# EAGLE library part XS1-G04B-FB114 (library Eagle_XMOS_Lib_COMPLETE)
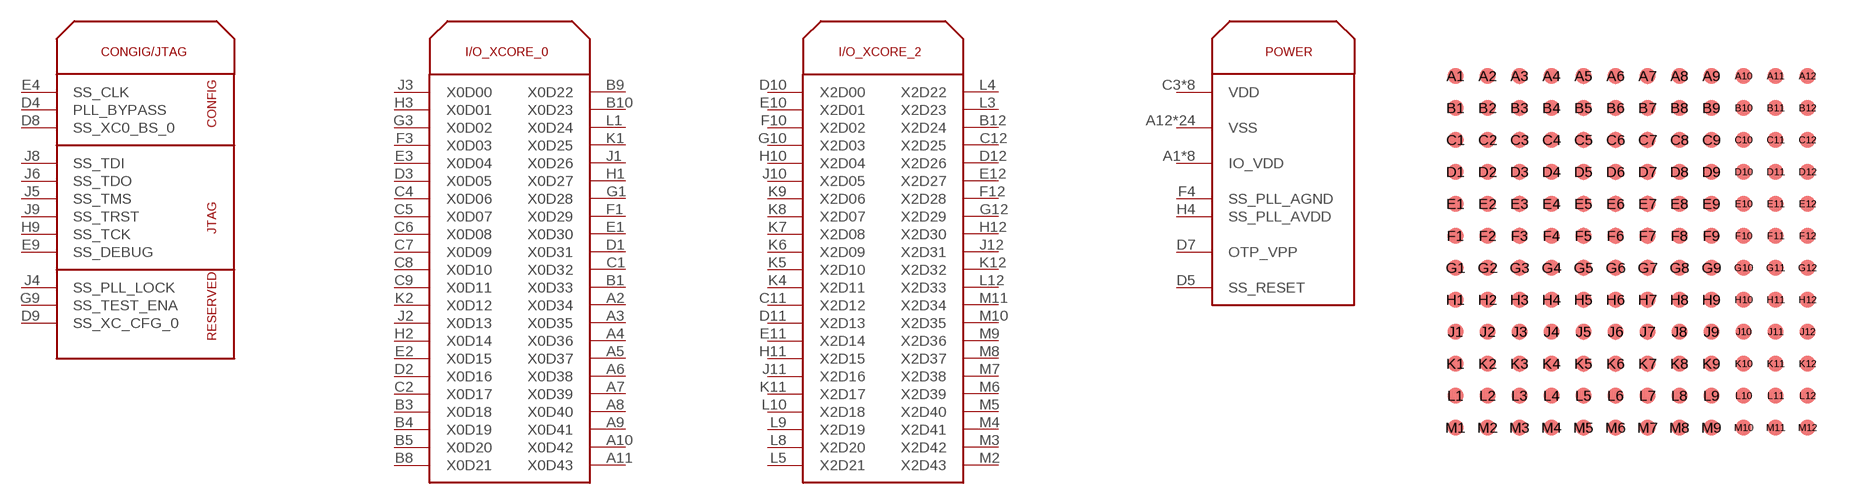
[diagram p5: symbol with the pads of FBGA144; footprint FBGA144]

Designator prefix -; gates G$1=XS1-G04B-FB144_CONFIG/JTAG G$2=XS1-G04B-FB144_I/O_XCORE_0 G$3=XS1-G04B-FB144_I/O_XCORE_2 G$4=XS1-G04B-FB144_POWER

## XS1-G04B-FB114  [FBGA144]
A1  G$4:IO_VDD
A2  G$2:X0D34
A3  G$2:X0D35
A4  G$2:X0D36
A5  G$2:X0D37
A6  G$2:X0D38
A7  G$2:X0D39
A8  G$2:X0D40
A9  G$2:X0D41
A10  G$2:X0D42
A11  G$2:X0D43
A12  G$4:VSS
B1  G$2:X0D33
B2  G$4:VSS
B3  G$2:X0D18
B4  G$2:X0D19
B5  G$2:X0D20
B6  G$4:IO_VDD
B7  G$4:VSS
B8  G$2:X0D21
B9  G$2:X0D22
B10  G$2:X0D23
B11  G$4:IO_VDD
B12  G$3:X2D24
C1  G$2:X0D32
C2  G$2:X0D17
C3  G$4:VDD
C4  G$2:X0D06
C5  G$2:X0D07
C6  G$2:X0D08
C7  G$2:X0D09
C8  G$2:X0D10
C9  G$2:X0D11
C10  G$4:VDD
C11  G$3:X2D12
C12  G$3:X2D25
D1  G$2:X0D31
D2  G$2:X0D16
D3  G$2:X0D05
D4  G$1:PLL_BYPASS
D5  G$4:SS_RESET
D6  G$4:VDD
D7  G$4:OTP_VPP
D8  G$1:SS_XC0_BS_0
D9  G$1:SS_XC_CFG_0
D10  G$3:X2D00
D11  G$3:X2D13
D12  G$3:X2D26
E1  G$2:X0D30
E2  G$2:X0D15
E3  G$2:X0D04
E4  G$1:SS_CLK
E5  G$4:VSS
E6  G$4:VSS
E7  G$4:VSS
E8  G$4:VSS
E9  G$1:SS_DEBUG
E10  G$3:X2D01
E11  G$3:X2D14
E12  G$3:X2D27
F1  G$2:X0D29
F2  G$4:IO_VDD
F3  G$2:X0D03
F4  G$4:SS_PLL_AGND
F5  G$4:VSS
F6  G$4:VSS
F7  G$4:VSS
F8  G$4:VSS
F9  G$4:VDD
F10  G$3:X2D02
F11  G$4:VSS
F12  G$3:X2D28
G1  G$2:X0D28
G2  G$4:VSS
G3  G$2:X0D02
G4  G$4:VDD
G5  G$4:VSS
G6  G$4:VSS
G7  G$4:VSS
G8  G$4:VSS
G9  G$1:SS_TEST_ENA
G10  G$3:X2D03
G11  G$4:IO_VDD
G12  G$3:X2D29
H1  G$2:X0D27
H2  G$2:X0D14
H3  G$2:X0D01
H4  G$4:SS_PLL_AVDD
H5  G$4:VSS
H6  G$4:VSS
H7  G$4:VSS
H8  G$4:VSS
H9  G$1:SS_TCK
H10  G$3:X2D04
H11  G$3:X2D15
H12  G$3:X2D30
J1  G$2:X0D26
J2  G$2:X0D13
J3  G$2:X0D00
J4  G$1:SS_PLL_LOCK
J5  G$1:SS_TMS
J6  G$1:SS_TDO
J7  G$4:VDD
J8  G$1:SS_TDI
J9  G$1:SS_TRST
J10  G$3:X2D05
J11  G$3:X2D16
J12  G$3:X2D31
K1  G$2:X0D25
K2  G$2:X0D12
K3  G$4:VDD
K4  G$3:X2D11
K5  G$3:X2D10
K6  G$3:X2D09
K7  G$3:X2D08
K8  G$3:X2D07
K9  G$3:X2D06
K10  G$4:VDD
K11  G$3:X2D17
K12  G$3:X2D32
L1  G$2:X0D24
L2  G$4:IO_VDD
L3  G$3:X2D23
L4  G$3:X2D22
L5  G$3:X2D21
L6  G$4:VSS
L7  G$4:IO_VDD
L8  G$3:X2D20
L9  G$3:X2D19
L10  G$3:X2D18
L11  G$4:VSS
L12  G$3:X2D33
M1  G$4:VSS
M2  G$3:X2D43
M3  G$3:X2D42
M4  G$3:X2D41
M5  G$3:X2D40
M6  G$3:X2D39
M7  G$3:X2D38
M8  G$3:X2D37
M9  G$3:X2D36
M10  G$3:X2D35
M11  G$3:X2D34
M12  G$4:IO_VDD

## Footprint FBGA144 (pad centres in mm)
smd 0.4 x 0.4: A1 1.3,-1.3; A2 2.1,-1.3; A3 2.9,-1.3; A4 3.7,-1.3; A5 4.5,-1.3; A6 5.3,-1.3; A7 6.1,-1.3; A8 6.9,-1.3; A9 7.7,-1.3; A10 8.5,-1.3; A11 9.3,-1.3; A12 10.1,-1.3; B1 1.3,-2.1; B2 2.1,-2.1; B3 2.9,-2.1; B4 3.7,-2.1; B5 4.5,-2.1; B6 5.3,-2.1; B7 6.1,-2.1; B8 6.9,-2.1; B9 7.7,-2.1; B10 8.5,-2.1; B11 9.3,-2.1; B12 10.1,-2.1; C1 1.3,-2.9; C2 2.1,-2.9; C3 2.9,-2.9; C4 3.7,-2.9; C5 4.5,-2.9; C6 5.3,-2.9; C7 6.1,-2.9; C8 6.9,-2.9; C9 7.7,-2.9; C10 8.5,-2.9; C11 9.3,-2.9; C12 10.1,-2.9; D1 1.3,-3.7; D2 2.1,-3.7; D3 2.9,-3.7; D4 3.7,-3.7; D5 4.5,-3.7; D6 5.3,-3.7; D7 6.1,-3.7; D8 6.9,-3.7; D9 7.7,-3.7; D10 8.5,-3.7; D11 9.3,-3.7; D12 10.1,-3.7; E1 1.3,-4.5; E2 2.1,-4.5; E3 2.9,-4.5; E4 3.7,-4.5; E5 4.5,-4.5; E6 5.3,-4.5; E7 6.1,-4.5; E8 6.9,-4.5; E9 7.7,-4.5; E10 8.5,-4.5; E11 9.3,-4.5; E12 10.1,-4.5; F1 1.3,-5.3; F2 2.1,-5.3; F3 2.9,-5.3; F4 3.7,-5.3; F5 4.5,-5.3; F6 5.3,-5.3; F7 6.1,-5.3; F8 6.9,-5.3; F9 7.7,-5.3; F10 8.5,-5.3; F11 9.3,-5.3; F12 10.1,-5.3; G1 1.3,-6.1; G2 2.1,-6.1; G3 2.9,-6.1; G4 3.7,-6.1; G5 4.5,-6.1; G6 5.3,-6.1; G7 6.1,-6.1; G8 6.9,-6.1; G9 7.7,-6.1; G10 8.5,-6.1; G11 9.3,-6.1; G12 10.1,-6.1; H1 1.3,-6.9; H2 2.1,-6.9; H3 2.9,-6.9; H4 3.7,-6.9; H5 4.5,-6.9; H6 5.3,-6.9; H7 6.1,-6.9; H8 6.9,-6.9; H9 7.7,-6.9; H10 8.5,-6.9; H11 9.3,-6.9; H12 10.1,-6.9; J1 1.3,-7.7; J2 2.1,-7.7; J3 2.9,-7.7; J4 3.7,-7.7; J5 4.5,-7.7; J6 5.3,-7.7; J7 6.1,-7.7; J8 6.9,-7.7; J9 7.7,-7.7; J10 8.5,-7.7; J11 9.3,-7.7; J12 10.1,-7.7; K1 1.3,-8.5; K2 2.1,-8.5; K3 2.9,-8.5; K4 3.7,-8.5; K5 4.5,-8.5; K6 5.3,-8.5; K7 6.1,-8.5; K8 6.9,-8.5; K9 7.7,-8.5; K10 8.5,-8.5; K11 9.3,-8.5; K12 10.1,-8.5; L1 1.3,-9.3; L2 2.1,-9.3; L3 2.9,-9.3; L4 3.7,-9.3; L5 4.5,-9.3; L6 5.3,-9.3; L7 6.1,-9.3; L8 6.9,-9.3; L9 7.7,-9.3; L10 8.5,-9.3; L11 9.3,-9.3; L12 10.1,-9.3; M1 1.3,-10.1; M2 2.1,-10.1; M3 2.9,-10.1; M4 3.7,-10.1; M5 4.5,-10.1; M6 5.3,-10.1; M7 6.1,-10.1; M8 6.9,-10.1; M9 7.7,-10.1; M10 8.5,-10.1; M11 9.3,-10.1; M12 10.1,-10.1